# EAGLE library part FE08-1 (library D21_v39)
FEMALE HEADER
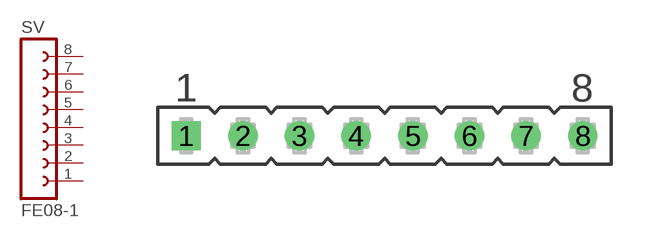
[diagram p4: symbol with the pads of FE08; footprint FE08]

Designator prefix SV

## FE08-1 (OC_FARNELL: unknown; OC_NEWARK: unknown)  [FE08]
1  1  pas
2  2  pas
3  3  pas
4  4  pas
5  5  pas
6  6  pas
7  7  pas
8  8  pas

## Footprint FE08 (pad centres in mm)
FEMALE HEADER
drill 0.813 square: 1 -8.89,0
drill 0.813: 2 -6.35,0; 3 -3.81,0; 4 -1.27,0; 5 1.27,0; 6 3.81,0; 7 6.35,0; 8 8.89,0